# EAGLE library part ACPL-064L (library wolfi)
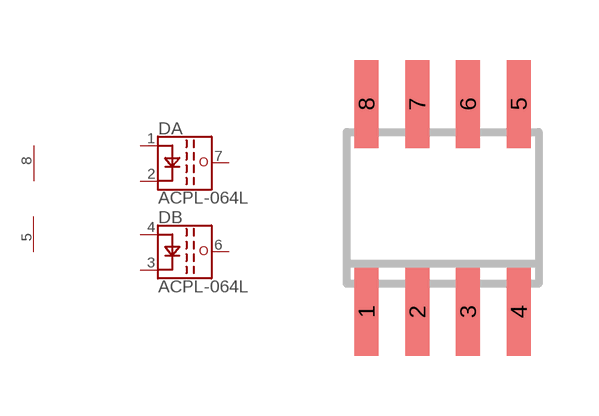
[diagram p26: symbol with the pads of SO08; footprint SO08]

Designator prefix D; gates A=ACPL-064 B=ACPL-064 G$3=PWR+-

## ACPL-064L  [SO08]
1  A:A  pas
2  A:K  pas
3  B:K  pas
4  B:A  pas
5  G$3:V-  pwr
6  B:O  out
7  A:O  out
8  G$3:V+  pwr

## Footprint SO08 (pad centres in mm)
Small Outline Package 8 NS Package M08A
smd 0.6 x 2.2: 1 -1.905,-2.6; 2 -0.635,-2.6; 3 0.635,-2.6; 4 1.905,-2.6; 5 1.905,2.6; 6 0.635,2.6; 7 -0.635,2.6; 8 -1.905,2.6